# Altium footprint library TO-277A.PcbLib: 1 footprints
Each footprint in its own frame and in the unit in brackets; x right, y up, seen from the top. Pads: shape width x height; smd on the part's side, far side on the other; paste and mask are expansions set on the pad; w line width, h text height; cw(c..) or ccw(c..) is an arc to the next point about the centre after c.
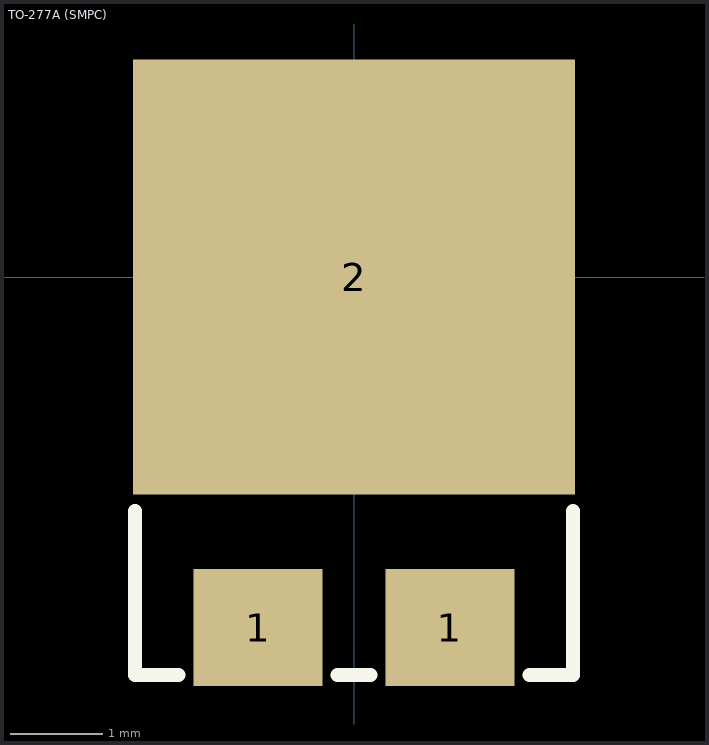
[diagram p0: the footprint, top view; thin cyan lines are the x and y axes]

## TO-277A (SMPC) [mm] "Based on Vishay SS10P3 Diode"
height 1.2
pads (3):
  rect 1.4x1.27 smd: 1(-1.041,-3.805) 1(1.041,-3.805)
  rect 4.8x4.72 smd: 2(0,0)
Top Overlay:
  lines w0.152: -2.375,-2.54 -2.375,-4.318 -1.905,-4.318 ; -0.178,-4.318 0.178,-4.318 ; 1.905,-4.318 2.375,-4.318 2.375,-2.54